# Altium footprint library TO-277-3.PcbLib: 1 footprints
Each footprint in its own frame and in the unit in brackets; x right, y up, seen from the top. Pads: shape width x height; smd on the part's side, far side on the other; paste and mask are expansions set on the pad; w line width, h text height; cw(c..) or ccw(c..) is an arc to the next point about the centre after c.
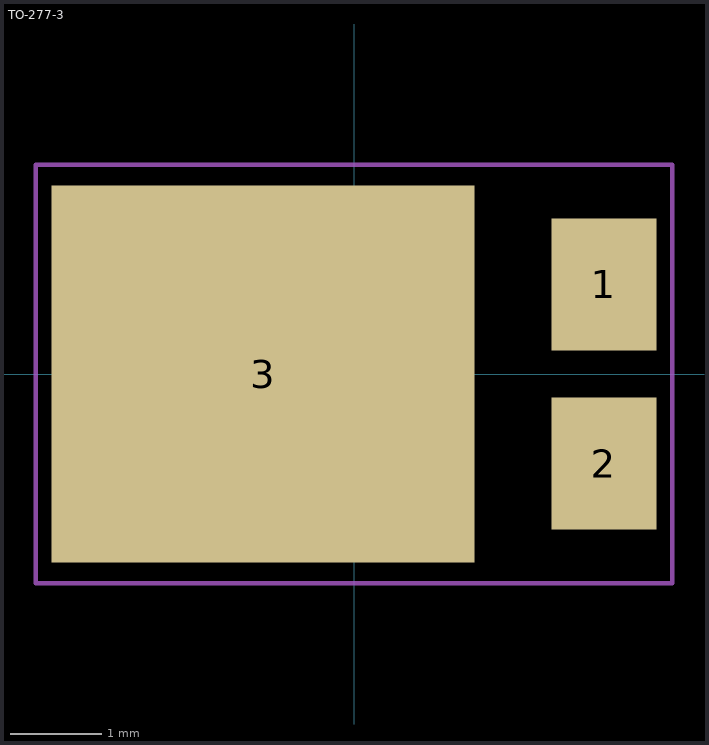
[diagram p0: the footprint, top view; thin cyan lines are the x and y axes]

## TO-277-3 [mm] "TO-277 3-pin"
pads (3):
  rect 1.15x1.45 smd: 1(2.75,0.985) 2(2.75,-0.985)
  rect 4.65x4.15 smd: 3(-1,0)
Mechanical 15:
  lines w0.05: -0.15,0 0.15,0 ; 0,-0.15 0,0.15 ; -3.5,-2.3 3.5,-2.3 3.5,2.3 -3.5,2.3 -3.5,-2.3